# EAGLE library part QUASON_RELAY_1_CH_SMALL (library wifi_switch)
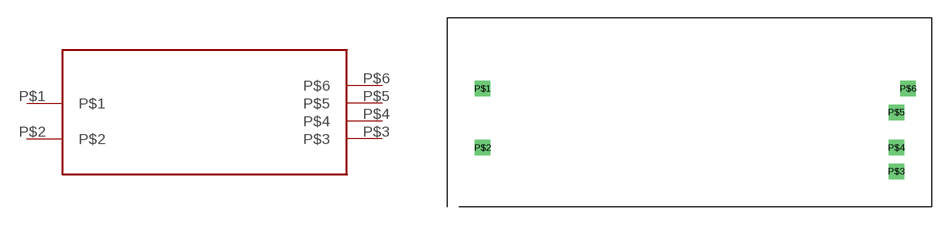
[diagram p2: symbol with the pads of QUASON_RELAY_1_CH_SMALL; footprint QUASON_RELAY_1_CH_SMALL]

Designator prefix -

## QUASON_RELAY_1_CH_SMALL  [QUASON_RELAY_1_CH_SMALL]
P$1  P$1
P$2  P$2
P$3  P$3
P$4  P$4
P$5  P$5
P$6  P$6

## Footprint QUASON_RELAY_1_CH_SMALL (pad centres in mm)
drill 0.8 square: P$1 3,10; P$2 3,5; P$3 38,3; P$4 38,5; P$5 38,8; P$6 39,10